# Altium footprint library stm32.PcbLib: 28 footprints (part 1 of 2)
Each footprint in its own frame and in the unit in brackets; x right, y up, seen from the top. Pads: shape width x height; smd on the part's side, far side on the other; paste and mask are expansions set on the pad; w line width, h text height; cw(c..) or ccw(c..) is an arc to the next point about the centre after c.
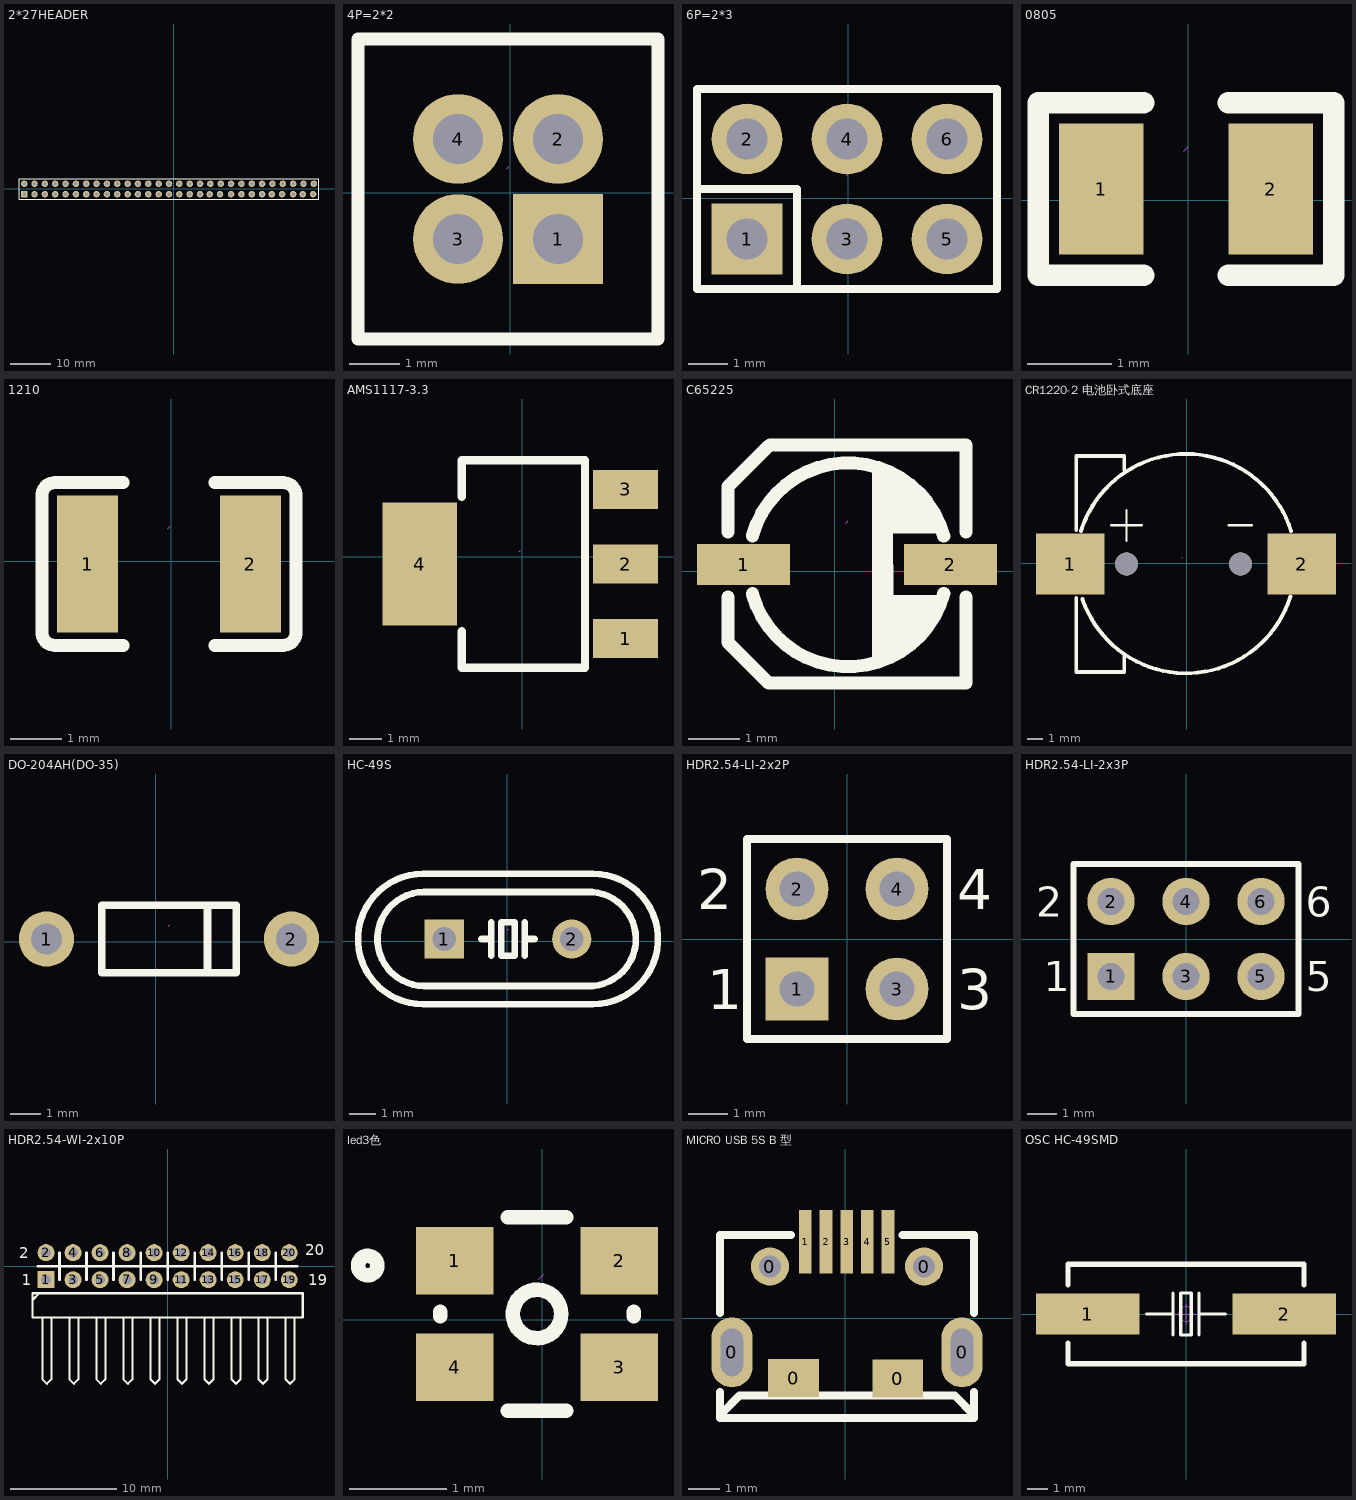
[diagram p0: the footprints below, top view; thin cyan lines are the x and y axes]

## 2*27HEADER [mm]
pads (58):
  rect 1.6x1.6 hole 0.9: 1(-36.704,-1.311)
  round 1.6 hole 0.9: 2(-36.704,1.229) 3(-34.164,-1.311) 4(-34.164,1.229) 5(-31.624,-1.311) 6(-31.624,1.229) 7(-29.084,-1.311) 8(-29.084,1.229) 9(-26.544,-1.311) 10(-26.544,1.229) 11(-24.004,-1.311) 12(-24.004,1.229) 13(-21.464,-1.311) 14(-21.464,1.229) 15(-18.924,-1.311) 16(-18.924,1.229) 17(-16.384,-1.311) 18(-16.384,1.229) 19(-13.844,-1.311) 20(-13.844,1.229) 21(-11.304,-1.311) 22(-11.304,1.229) 23(-8.764,-1.311) 24(-8.764,1.229) 25(-6.224,-1.311) 26(-6.224,1.229) 27(-3.684,-1.311) 28(-3.684,1.229) 29(-1.144,-1.311) 30(-1.144,1.229) 31(1.396,-1.311) 32(1.396,1.229) 33(3.936,-1.311) 34(3.936,1.229) 35(6.476,-1.311) 36(6.476,1.229) 37(8.84,-1.311) 38(9.016,1.229) 39(11.38,-1.311) 40(11.556,1.229) 41(14.096,-1.311) 42(14.096,1.229) 43(16.636,-1.311) 44(16.636,1.229) 45(19.176,-1.311) 46(19.176,1.229) 47(21.716,-1.311) 48(21.716,1.229) 49(24.08,-1.311) 50(24.256,1.229) 51(26.62,-1.311) 52(26.796,1.229) 53(29.336,-1.311) 54(29.336,1.229) 55(31.7,-1.311) 56(31.876,1.229) 57(34.24,-1.311) 58(34.416,1.229)
Top Overlay:
  lines w0.2: -30.354,-2.581 35.686,-2.581 ; -22.734,2.499 35.686,2.499 ; 35.686,-2.581 -37.974,-2.581 -37.974,2.499 35.686,2.499 ; 35.686,-2.581 35.686,2.499
3D body "HDR2.54-1x2P.STEP": height 8.5, standoff -3, extent 7.747,-2.667 10.287,2.413
3D body "HDR2.54-1x2P.STEP": height 8.5, standoff -3, extent 10.287,-2.667 12.827,2.413
3D body "HDR2.54-1x2P.STEP": height 8.5, standoff -3, extent 2.666,-2.581 5.206,2.499
3D body "HDR2.54-1x2P.STEP": height 8.5, standoff -3, extent 5.206,-2.581 7.746,2.499
3D body "HDR2.54-1x2P.STEP": height 8.5, standoff -3, extent -2.414,-2.581 0.126,2.499
3D body "HDR2.54-1x2P.STEP": height 8.5, standoff -3, extent 0.126,-2.581 2.666,2.499
3D body "HDR2.54-1x2P.STEP": height 8.5, standoff -3, extent -7.494,-2.581 -4.954,2.499
3D body "HDR2.54-1x2P.STEP": height 8.5, standoff -3, extent -4.954,-2.581 -2.414,2.499
3D body "HDR2.54-1x2P.STEP": height 8.5, standoff -3, extent -12.574,-2.581 -10.034,2.499
3D body "HDR2.54-1x2P.STEP": height 8.5, standoff -3, extent -10.034,-2.581 -7.494,2.499
3D body "HDR2.54-1x2P.STEP": height 8.5, standoff -3, extent -17.654,-2.581 -15.114,2.499
3D body "HDR2.54-1x2P.STEP": height 8.5, standoff -3, extent -15.114,-2.581 -12.574,2.499
3D body "HDR2.54-1x2P.STEP": height 8.5, standoff -3, extent -22.734,-2.581 -20.194,2.499
3D body "HDR2.54-1x2P.STEP": height 8.5, standoff -3, extent -20.194,-2.581 -17.654,2.499
3D body "HDR2.54-1x2P.STEP": height 8.5, standoff -3, extent -27.814,-2.581 -25.274,2.499
3D body "HDR2.54-1x2P.STEP": height 8.5, standoff -3, extent -25.274,-2.581 -22.734,2.499
3D body "HDR2.54-1x2P.STEP": height 8.5, standoff -3, extent -32.894,-2.581 -30.354,2.499
3D body "HDR2.54-1x2P.STEP": height 8.5, standoff -3, extent -30.354,-2.581 -27.814,2.499
3D body "HDR2.54-1x2P.STEP": height 8.5, standoff -3, extent -37.974,-2.581 -35.434,2.499
3D body "HDR2.54-1x2P.STEP": height 8.5, standoff -3, extent -35.434,-2.581 -32.894,2.499
3D body "HDR2.54-1x2P.STEP": height 8.5, standoff -3, extent 22.987,-2.54 25.527,2.54
3D body "HDR2.54-1x2P.STEP": height 8.5, standoff -3, extent 25.526,-2.581 28.066,2.499
3D body "HDR2.54-1x2P.STEP": height 8.5, standoff -3, extent 17.906,-2.581 20.446,2.499
3D body "HDR2.54-1x2P.STEP": height 8.5, standoff -3, extent 20.446,-2.581 22.986,2.499
3D body "HDR2.54-1x2P.STEP": height 8.5, standoff -3, extent 12.827,-2.54 15.367,2.54
3D body "HDR2.54-1x2P.STEP": height 8.5, standoff -3, extent 15.366,-2.581 17.906,2.499
3D body "HDR2.54-1x2P.STEP": height 8.5, standoff -3, extent 30.607,-2.54 33.147,2.54
3D body "HDR2.54-1x2P.STEP": height 8.5, standoff -3, extent 33.146,-2.581 35.686,2.499
3D body "HDR2.54-1x2P.STEP": height 8.5, standoff -3, extent 28.066,-2.581 30.606,2.499

## 4P=2*2 [mm]
pads (4):
  rect 1.8x1.8 hole 1: 1(0.953,-0.921)
  round 1.8 hole 1: 2(0.953,1.079) 3(-1.047,-0.921) 4(-1.047,1.079)
Top Overlay:
  lines w0.254: -3.047,-2.921 2.952,-2.921 2.952,3.079 -3.047,3.079 ; -3.048,-2.92 -3.048,3.079
Mechanical 15:
  lines w0.003: -0.073,0.482 -0.022,0.533

## 6P=2*3 [mm]
pads (6):
  rect 1.8x1.8 hole 1.05: 1(-2.565,-1.041)
  round 1.8 hole 1.05: 2(-2.565,1.499) 3(-0.025,-1.041) 4(-0.025,1.499) 5(2.515,-1.041) 6(2.515,1.499)
Top Overlay:
  lines w0.203: -3.835,0.231 -1.295,0.231 -1.295,-2.311 ; -1.084,-2.311 3.785,-2.311 ; 3.785,-2.311 3.785,2.769 -3.835,2.769 -3.835,-2.311 3.785,-2.311
Mechanical 15:
  lines w0.003: -0.051,0.565 0,0.616

## 0805 [mm]
pads (2):
  rect 1x1.55 smd: 1(-1.028,0.131) 2(0.972,0.131)
Top Overlay:
  lines w0.254: -0.528,-0.889 -1.778,-0.889 -1.778,1.151 -0.528,1.151 ; 0.472,-0.889 1.722,-0.889 1.722,1.151 0.472,1.151
Mechanical 15:
  lines w0.003: -0.053,0.58 -0.003,0.631

## 1210 [mm] "电容104"
pads (2):
  rect 1.2x2.7 smd: 1(-1.64,-0.051) 2(1.56,-0.051)
Top Overlay:
  lines w0.254: -0.94,-1.651 -2.24,-1.651 -2.29,-1.651 cw(c-2.29,-1.401) -2.54,-1.401 -2.54,1.299 cw(c-2.29,1.299) -2.29,1.549 -2.24,1.549 -0.94,1.549 ; 0.86,-1.651 2.16,-1.651 2.21,-1.651 ccw(c2.21,-1.401) 2.46,-1.401 2.46,1.299 ccw(c2.21,1.299) 2.21,1.549 2.16,1.549 ; 0.86,1.549 2.16,1.549 ; 2.16,1.549 2.16,1.549
Mechanical 15:
  lines w0.003: -0.065,0.645 -0.015,0.695

## AMS1117-3.3 [mm]
pads (4):
  rect 2x1.2 smd: 1(3.182,-2.529) 2(3.182,-0.229) 3(3.182,2.071)
  rect 2.3x3.8 smd: 4(-3.168,-0.229)
Top Overlay:
  lines w0.254: -1.868,-2.304 -1.868,-3.429 1.932,-3.429 1.932,2.971 -1.868,2.971 -1.868,1.846
Mechanical 15:
  lines w0.003: -0.093,0.146 -0.043,0.197

## C65225 [mm] "贴片电解电容"
pads (2):
  rect 1.8x0.8 smd: 1(-1.767,0.131) 2(2.233,0.131)
Top Overlay:
  region: 0.723,1.971 0.723,-1.759 1.403,-1.409 1.773,-0.959 2.013,-0.609 2.073,-0.459 1.123,-0.459 1.113,0.731 2.063,0.731 1.773,1.341 1.403,1.721 0.983,1.921 0.953,1.971
  lines w0.254: -2.067,-0.5 -2.067,-1.379 -1.287,-2.159 2.533,-2.159 2.533,-0.5 ; -2.067,0.762 -2.067,1.641 -1.287,2.421 ; -1.597,-0.432 ccw(c0.253,0.07) 2.103,-0.432 ; -1.597,0.681 cw(c0.253,0.179) 2.103,0.681 ; -1.257,2.441 2.533,2.441 2.533,0.762
Mechanical 15:
  lines w0.003: 0.208,0.926 0.258,0.977

## CR1220-2 电池卧式底座 [mm] "CR1220-2 电池卧式底座"
pads (4):
  rect 4.5x4 smd: 1(-7.656,-0.045) 2(7.584,-0.045)
  round 1.5 hole 1.5 unplated: ""(-3.947,-0.045) ""(3.546,-0.045)
Top Overlay:
  lines w0.152: -4.963,2.495 -2.931,2.495 ; -3.947,1.479 -3.947,3.511 ; 2.784,2.495 4.308,2.495
  lines w0.254: -7.256,-2.276 -7.256,-7.157 -4.1,-7.157 -4.1,-5.957 ; -7.256,2.186 -7.256,7.067 -4.1,7.067 -4.1,6.126 ; -6.947,2.13 cw(c-0.036,-0.045) 6.882,2.109 ; -6.851,-2.342 ccw(c-0.036,-0.045) 6.836,-2.169
Mechanical 15:
  lines w0.003: -0.315,0.365 -0.265,0.416

## DO-204AH(DO-35) [mm] "C258182二极管"
pads (2):
  round 1.8 hole 1: 1(-3.57,0.084) 2(4.43,0.084)
Top Overlay:
  lines w0.254: 1.69,-1.016 1.69,1.184 ; -1.77,-1.016 -1.77,1.184 2.63,1.184 2.63,-1.016 -1.77,-1.016
Mechanical 15:
  lines w0.003: 0.404,0.493 0.455,0.544

## HC-49S [mm] "C258976 8M/12M晶振"
pads (2):
  rect 1.5x1.5 hole 0.9: 1(-2.411,0.087)
  round 1.5 hole 0.9: 2(2.466,0.087)
Top Overlay:
  lines w0.254: -0.989,0.087 -0.608,0.087 ; -0.608,-0.548 -0.608,0.087 ; -0.608,0.722 -0.608,0.087 ; 0.662,-0.548 0.662,0.087 ; 0.662,0.722 0.662,0.087 ; 1.043,0.087 0.662,0.087 ; 3.277,-2.413 -3.223,-2.413 cw(c-3.215,0.087) -3.224,2.586 3.277,2.587 cw(c3.27,0.087) 3.279,-2.412 ; -3.173,-1.713 cw(c-3.173,0.087) -3.173,1.888 3.227,1.887 cw(c3.121,0.087) 3.027,-1.714 -3.173,-1.713 ; -0.227,-0.548 0.281,-0.548 0.281,0.722 -0.227,0.722 -0.227,-0.548
Mechanical 15:
  lines w0.003: 0.002,0.431 0.053,0.482

## HDR2.54-LI-2x2P [mm] "双排排针，2x2脚"
pads (4):
  rect 1.6x1.6 hole 0.9: 1(-1.27,-1.27)
  round 1.6 hole 0.9: 2(-1.27,1.27) 3(1.27,-1.27) 4(1.27,1.27)
Top Overlay:
  lines w0.2: -2.54,-2.54 -2.54,2.54 2.54,2.54 2.54,-2.54 -2.54,-2.54
  text "1" at -3.556,-1.778 h1.02
  text "2" at -3.81,0.762 h1.02
  text "4" at 2.794,0.762 h1.02
  text "3" at 2.794,-1.778 h1.02
3D body "HDR2.54-1x2P.STEP": height 8.5, standoff -3, extent -2.54,-2.54 0,2.54
3D body "HDR2.54-1x2P.STEP": height 8.5, standoff -3, extent 0,-2.54 2.54,2.54

## HDR2.54-LI-2x3P [mm] "双排排针，2x3脚 封装库来自淘宝卖家 ID：黄晶宝石"
pads (6):
  rect 1.6x1.6 hole 0.9: 1(-2.54,-1.27)
  round 1.6 hole 0.9: 2(-2.54,1.27) 3(0,-1.27) 4(0,1.27) 5(2.54,-1.27) 6(2.54,1.27)
Top Overlay:
  lines w0.2: -1.058,-2.54 3.81,-2.54 ; 3.81,-2.54 -3.81,-2.54 -3.81,2.54 3.81,2.54 3.81,-2.54
  text "1" at -4.826,-1.778 h1.02
  text "2" at -5.08,0.762 h1.02
  text "5" at 4.064,-1.778 h1.02
  text "6" at 4.064,0.762 h1.02
3D body "HDR2.54-1x2P.STEP": height 8.5, standoff -3, extent -1.27,-2.54 1.27,2.54
3D body "HDR2.54-1x2P.STEP": height 8.5, standoff -3, extent -3.81,-2.54 -1.27,2.54
3D body "HDR2.54-1x2P.STEP": height 8.5, standoff -3, extent 1.27,-2.54 3.81,2.54

## HDR2.54-WI-2x10P [mm]
pads (20):
  rect 1.6x1.6 hole 0.9: 1(-11.43,-1.27)
  round 1.6 hole 0.9: 2(-11.43,1.27) 3(-8.89,-1.27) 4(-8.89,1.27) 5(-6.35,-1.27) 6(-6.35,1.27) 7(-3.81,-1.27) 8(-3.81,1.27) 9(-1.27,-1.27) 10(-1.27,1.27) 11(1.27,-1.27) 12(1.27,1.27) 13(3.81,-1.27) 14(3.81,1.27) 15(6.35,-1.27) 16(6.35,1.27) 17(8.89,-1.27) 18(8.89,1.27) 19(11.43,-1.27) 20(11.43,1.27)
Top Overlay:
  lines w0.2: -12.7,-3.175 -12.065,-2.54 ; -11.778,-10.634 -11.355,-11.057 -10.931,-10.634 -10.922,-10.625 -10.922,-4.826 ; -11.769,-10.634 -11.769,-4.826 ; -9.238,-10.634 -8.815,-11.057 -8.391,-10.634 ; -9.229,-10.634 -9.229,-4.826 ; -8.382,-10.634 -8.382,-4.826 ; -6.698,-10.634 -6.275,-11.057 -5.851,-10.634 ; -6.689,-10.634 -6.689,-4.826 ; -5.842,-10.634 -5.842,-4.826 ; -4.158,-10.634 -3.735,-11.057 -3.311,-10.634 ; -4.149,-10.634 -4.149,-4.826 ; -3.302,-10.634 -3.302,-4.826 ; -1.618,-10.634 -1.195,-11.057 -0.771,-10.634 ; -1.609,-10.634 -1.609,-4.826 ; -0.762,-10.634 -0.762,-4.826 ; 0.922,-10.634 1.345,-11.057 1.769,-10.634 ; 0.931,-10.634 0.931,-4.826 ; 1.778,-10.634 1.778,-4.826 ; 3.462,-10.634 3.885,-11.057 4.309,-10.634 ; 3.471,-10.634 3.471,-4.826 ; 4.318,-10.634 4.318,-4.826 ; 6.002,-10.634 6.425,-11.057 6.849,-10.634 ; 6.011,-10.634 6.011,-4.826 ; 6.858,-10.634 6.858,-4.826 ; 8.542,-10.634 8.965,-11.057 9.389,-10.634 ; 8.551,-10.634 8.551,-4.826 ; 9.398,-10.634 9.398,-4.826 ; 11.082,-10.634 11.505,-11.057 11.929,-10.634 ; 11.091,-10.634 11.091,-4.826 ; 11.938,-10.634 11.938,-4.826 ; -12.7,-4.826 -12.7,-2.54 12.7,-2.54 12.7,-4.826 -12.7,-4.826
  lines w0.254: -12.192,0 12.192,0 ; -10.16,-1.27 -10.16,1.27 ; -7.62,-1.27 -7.62,1.27 ; -5.08,-1.27 -5.08,1.27 ; -2.54,-1.27 -2.54,1.27 ; 0,-1.27 0,1.27 ; 2.54,-1.27 2.54,1.27 ; 5.08,-1.27 5.08,1.27 ; 7.62,-1.27 7.62,1.27 ; 10.16,-1.27 10.16,1.27
  text "19" at 13.208,-1.778 h1.02
  text "20" at 12.954,1.016 h1.02
  text "1" at -13.716,-1.778 h1.02
  text "2" at -13.97,0.762 h1.02
Bottom Overlay:
  lines w0.254: -12.192,0 12.192,0 ; -10.16,-1.27 -10.16,1.27 ; -7.62,-1.27 -7.62,1.27 ; -5.08,-1.27 -5.08,1.27 ; -2.54,-1.27 -2.54,1.27 ; 0,-1.27 0,1.27 ; 2.54,-1.27 2.54,1.27 ; 5.08,-1.27 5.08,1.27 ; 7.62,-1.27 7.62,1.27 ; 10.16,-1.27 10.16,1.27
3D body "HDR-1x2_H.STEP": height 5.1, standoff -3, extent 10.16,-11.23 12.7,1.62
3D body "HDR-1x2_H.STEP": height 5.1, standoff -3, extent 7.62,-11.23 10.16,1.62
3D body "HDR-1x2_H.STEP": height 5.1, standoff -3, extent 5.08,-11.23 7.62,1.62
3D body "HDR-1x2_H.STEP": height 5.1, standoff -3, extent 2.54,-11.23 5.08,1.62
3D body "HDR-1x2_H.STEP": height 5.1, standoff -3, extent 0,-11.23 2.54,1.62
3D body "HDR-1x2_H.STEP": height 5.1, standoff -3, extent -2.54,-11.23 0,1.62
3D body "HDR-1x2_H.STEP": height 5.1, standoff -3, extent -5.08,-11.23 -2.54,1.62
3D body "HDR-1x2_H.STEP": height 5.1, standoff -3, extent -7.62,-11.23 -5.08,1.62
3D body "HDR-1x2_H.STEP": height 5.1, standoff -3, extent -10.16,-11.23 -7.62,1.62
3D body "HDR-1x2_H.STEP": height 5.1, standoff -3, extent -12.7,-11.23 -10.16,1.62

## led3色 [mm]
pads (4):
  rect 0.8x0.7 smd: 1(-0.905,0.609) 2(0.795,0.609) 3(0.795,-0.491) 4(-0.905,-0.491)
Top Overlay:
  circle w0.15: c-0.055,0.059 r0.25
  circle w0.15: c-1.805,0.559 r0.1
  lines w0.15: -0.357,-0.941 -0.052,-0.941 ; -0.357,1.059 0.247,1.059 ; -0.126,-0.941 0.247,-0.941 ; -1.055,0.038 -1.055,0.08 -1.055,0.038 ; 0.945,0.038 0.945,0.08 0.945,0.038
Mechanical 15:
  lines w0.003: -0.036,0.417 0.015,0.468

## MICRO USB 5S B 型 [mm]
pads (11):
  oval 1.3x2.2 hole 0.7 slot 1.5 at 90 deg: 0(-3.568,-1.067) 0(3.671,-1.067)
  round 1.2 hole 0.7: 0(-2.373,1.633) 0(2.477,1.633)
  rect 1.6x1.2 smd: 0(-1.631,-1.878) 0(1.647,-1.894)
  rect 0.4x2 smd: 1(-1.259,2.418) 2(-0.609,2.418) 3(0.041,2.418) 4(0.691,2.418) 5(1.341,2.418)
Top Overlay:
  lines w0.254: -3.948,-3.137 4.052,-3.137 4.052,-2.311 ; -3.948,-3.117 -3.948,-2.311 ; -3.948,0.178 -3.948,2.623 -1.715,2.623 ; -3.918,-3.117 -3.918,-3.017 -3.328,-2.427 3.441,-2.427 4.031,-3.017 4.031,-3.137 ; 1.797,2.623 4.052,2.623 ; 4.052,0.178 4.052,2.613

## OSC HC-49SMD [mm] "封装库来自淘宝卖家 ID：黄晶宝石"
pads (2):
  rect 5x2 smd: 1(-4.75,0) 2(4.75,0)
Top Overlay:
  lines w0.152: -1.905,0 -0.635,0 ; -0.635,-1.016 -0.635,1.016 ; 0.635,-1.016 0.635,1.016 ; 0.635,0 1.905,0 ; -0.254,-1.016 0.254,-1.016 0.254,1.016 -0.254,1.016 -0.254,-1.016
  lines w0.254: -5.7,-1.397 -5.7,-2.4 5.7,-2.4 5.7,-1.397 ; -5.7,1.397 -5.7,2.4 5.7,2.4 5.7,1.397
Mechanical 15:
  circle w0.05: c0,0 r0.35
  lines w0.05: -0.5,0 0.5,0 ; 0,-0.5 0,0.5
3D body "osc_hc-49smd_asm.stp": height -0.53, standoff -5.11, extent -6.5,-2.325 6.5,2.325